# Altium schematic symbol library libysk_connectors.SchLib: 11 symbols
Pins are listed as number, name and electrical type; pins without a type are passive.

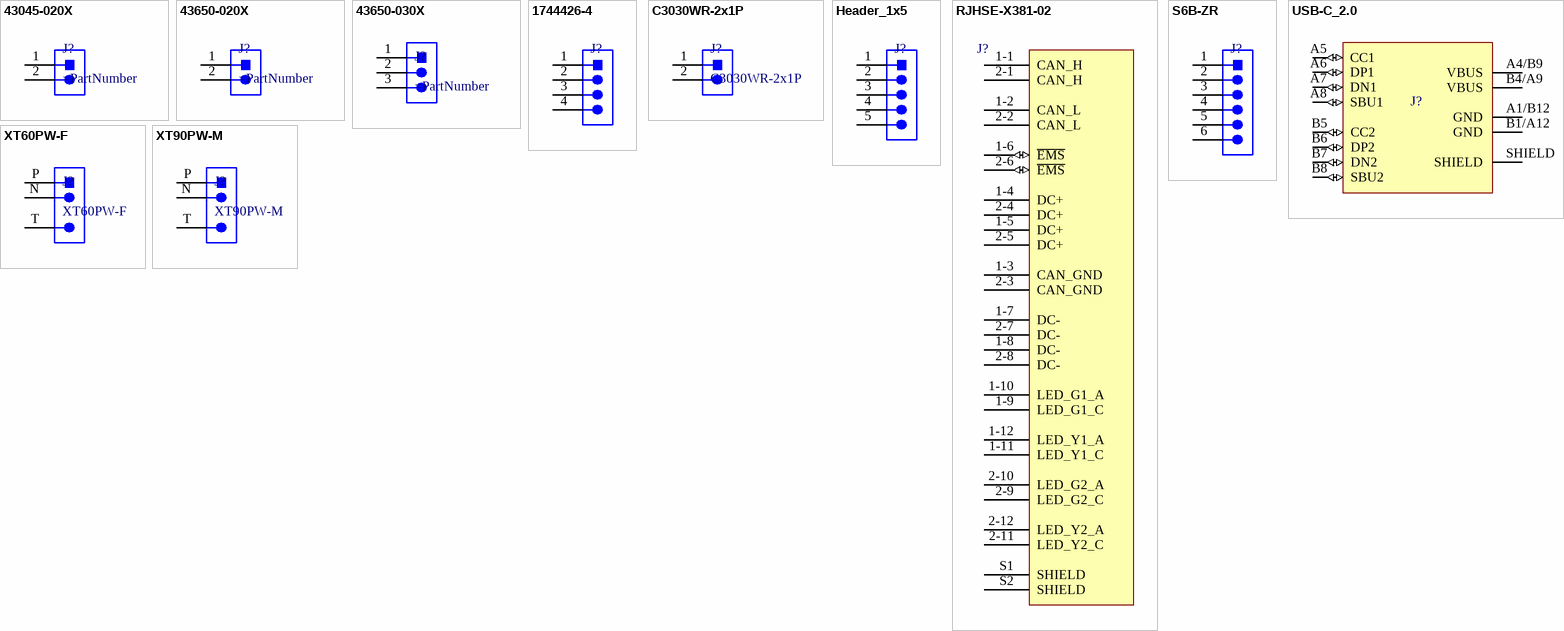
[diagram p0: symbols 43045-020X to XT90PW-M]

## 43045-020X
designator J?
Molex Micro-Fit 3.0, 2POS, R/A w/Pegs, Dual row
footprint 43045-020X (Molex Micro-Fit 3.0, 2POS, R/A w/Pegs, Dual row)
pins: 1, 2

## 43650-020X
designator J?
Header, Micro-Fit 3.0 , Molex, R/A, 2 POS, 3mm
footprint 43650-020X (Molex Micro-Fit 3.0, 2POS, R/A w/Pegs, Single row)
pins: 1, 2

## 43650-030X
designator J?
Header, Micro-Fit 3.0 , Molex, R/A, 2 POS, 3mm
footprint 43650-030X (Molex Micro-Fit 3.0, 2POS, R/A w/Pegs, Single row)
pins: 1, 2, 3

## 1744426-4
designator J?  (value not drawn)
CON, HEADER, EP2.5, 4POS, R/A, THT; Manufacturer 1: TE Connectivity; Manufacturer Part Number 1: 1744426-4
footprint 1744426-4 (CON, HEADER, EP2.5, R/A)
pins: 1, 2, 3, 4

## C3030WR-2x1P
designator J?
HEADER, 2POS, 3mm, R/A w/Pegs, Dual row; Manufacturer: CJT; PartNumber: C3030WR-2x1P
footprint 43045-020X (Molex Micro-Fit 3.0, 2POS, R/A w/Pegs, Dual row)
pins: 1, 2

## Header_1x5
designator J?  (value not drawn)
footprint HDR_1x5 (HDR, single-row, 5 pins)
pins: 1, 2, 3, 4, 5

## RJHSE-X381-02
designator J?  (value not drawn)
footprint RJHSE-X38X-02
pins: 1-1 CAN_H, 1-2 CAN_L, 1-3 CAN_GND, 1-4 DC+, 1-5 DC+, 1-6 ~{EMS} (io), 1-7 DC-, 1-8 DC-, 1-9 LED_G1_C, 1-10 LED_G1_A, 1-11 LED_Y1_C, 1-12 LED_Y1_A, 2-1 CAN_H, 2-2 CAN_L, 2-3 CAN_GND, 2-4 DC+, 2-5 DC+, 2-6 ~{EMS} (io), 2-7 DC-, 2-8 DC-, 2-9 LED_G2_C, 2-10 LED_G2_A, 2-11 LED_Y2_C, 2-12 LED_Y2_A, S1 SHIELD, S2 SHIELD

## S6B-ZR
designator J?  (value not drawn)
CON, HEADER, 6POS, 1.5mm, R/A, THT; Manufacturer 1: JST; Manufacturer Part Number 1: S6B-ZR
footprint S6B-ZR
pins: 1, 2, 3, 4, 5, 6

## USB-C_2.0
designator J?
CON, RCPT, USB TYPE-C, 16POS, USB 2.0
footprint USB4105
pins: A1/B12 GND (power), A4/B9 VBUS (power), A5 CC1 (io), A6 DP1 (io), A7 DN1 (io), A8 SBU1 (io), B1/A12 GND (power), B4/A9 VBUS (power), B5 CC2 (io), B6 DP2 (io), B7 DN2 (io), B8 SBU2 (io), SHIELD (power)

## XT60PW-F
designator J?
CON, 2POS, FEMALE, R/A, THT; Manufacturer 1: Amass; Manufacturer Part Number 1: XT60PW-F
footprint XT60PW-F (CON, 2POS, FEMALE, THT, 30A)
pins: N, P, T TAB

## XT90PW-M
designator J?
CON, 2POS, MALE, R/A, THT; Manufacturer 1: Amass; Manufacturer Part Number 1: XT90PW-M
footprint XT90PW-M
pins: N, P, T TAB